# EAGLE library part ET0350G0DM6 (library mylib)
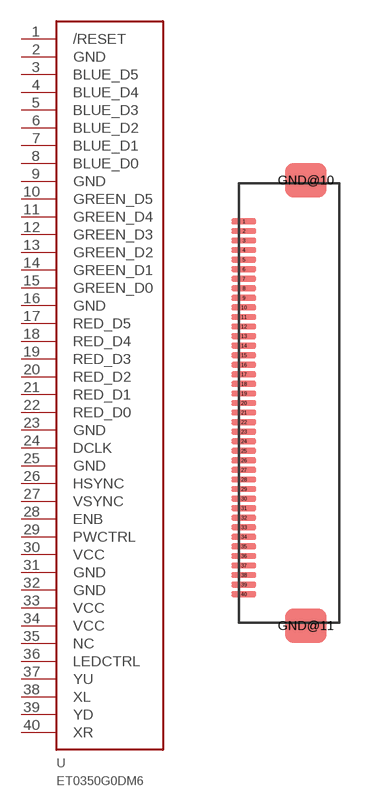
[diagram p7: symbol with the pads of XF3M-4015-1B; footprint XF3M-4015-1B]

Designator prefix -

## ET0350G0DM6  [XF3M-4015-1B]
1  /RESET  in
2  GND  pwr
3  BLUE_D5  in
4  BLUE_D4  in
5  BLUE_D3  in
6  BLUE_D2  in
7  BLUE_D1  in
8  BLUE_D0  in
9  GND  pwr
10  GREEN_D5  in
11  GREEN_D4  in
12  GREEN_D3  in
13  GREEN_D2  in
14  GREEN_D1  in
15  GREEN_D0  in
16  GND  pwr
17  RED_D5  in
18  RED_D4  in
19  RED_D3  in
20  RED_D2  in
21  RED_D1  in
22  RED_D0  in
23  GND  pwr
24  DCLK
25  GND  pwr
26  HSYNC  in
27  VSYNC  in
28  ENB  in
29  PWCTRL  in
30  VCC  pwr
31  GND  pwr
32  GND  pwr
33  VCC  pwr
34  VCC  pwr
35  NC  nc
36  LEDCTRL  in
37  YU  pas
38  XL  pas
39  YD  pas
40  XR  pas

## Footprint XF3M-4015-1B (pad centres in mm)
smd 1.3 x 0.3: 1 0,9.5; 2 0,9; 3 0,8.5; 4 0,8; 5 0,7.5; 6 0,7; 7 0,6.5; 8 0,6; 9 0,5.5; 10 0,5; 11 0,4.5; 12 0,4; 13 0,3.5; 14 0,3; 15 0,2.5; 16 0,2; 17 0,1.5; 18 0,1; 19 0,0.5; 20 0,0; 21 0,-0.5; 22 0,-1; 23 0,-1.5; 24 0,-2; 25 0,-2.5; 26 0,-3; 27 0,-3.5; 28 0,-4; 29 0,-4.5; 30 0,-5; 31 0,-5.5; 32 0,-6; 33 0,-6.5; 34 0,-7; 35 0,-7.5; 36 0,-8; 37 0,-8.5; 38 0,-9; 39 0,-9.5; 40 0,-10
smd 2.2 x 1.8: GND@10 3.25,11.65; GND@11 3.25,-11.65